# EAGLE library part A4983_LITERAL (library microbuilder)
A4983 2A Micro-Stepping Stepper Motor Driver Logic: 3.0-5.5V Load Supply: 8.0-35V
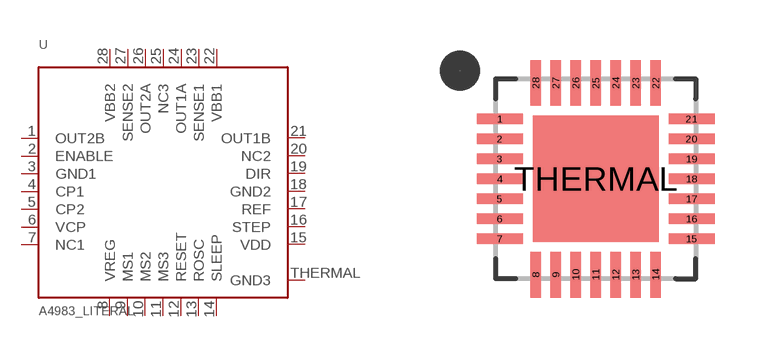
[diagram p114: symbol with the pads of QFN28_5MM; footprint QFN28_5MM]

Designator prefix U

## A4983_LITERAL  [QFN28_5MM]
1  OUT2B
2  ENABLE  in
3  GND1  pwr
4  CP1
5  CP2
6  VCP
7  NC1  nc
8  VREG
9  MS1  in
10  MS2  in
11  MS3  in
12  RESET  in
13  ROSC
14  SLEEP
15  VDD  pwr
16  STEP  in
17  REF
18  GND2  pwr
19  DIR  in
20  NC2  nc
21  OUT1B
22  VBB1
23  SENSE1
24  OUT1A
25  NC3  nc
26  OUT2A
27  SENSE2
28  VBB2
THERMAL  GND3  pwr

## Footprint QFN28_5MM (pad centres in mm)
28-Pin 0.5mm pitch QFN (5.0x5.0mm) Source: http://www.allegromicro.com/en/Products/Part_Numbers/4983/4983.pdf
smd 1.15 x 0.27: 1 -2.4,1.5; 2 -2.4,1; 3 -2.4,0.5; 4 -2.4,0; 5 -2.4,-0.5; 6 -2.4,-1; 7 -2.4,-1.5; 15 2.4,-1.5; 16 2.4,-1; 17 2.4,-0.5; 18 2.4,0; 19 2.4,0.5; 20 2.4,1; 21 2.4,1.5
smd 0.27 x 1.15: 8 -1.5,-2.4; 9 -1,-2.4; 10 -0.5,-2.4; 11 0,-2.4; 12 0.5,-2.4; 13 1,-2.4; 14 1.5,-2.4; 22 1.5,2.4; 23 1,2.4; 24 0.5,2.4; 25 0,2.4; 26 -0.5,2.4; 27 -1,2.4; 28 -1.5,2.4
smd 3.15 x 3.15: THERMAL 0,0